# Altium footprint library VSSOP10-SPE-LM5060.PcbLib: 1 footprints
Each footprint in its own frame and in the unit in brackets; x right, y up, seen from the top. Pads: shape width x height; smd on the part's side, far side on the other; paste and mask are expansions set on the pad; w line width, h text height; cw(c..) or ccw(c..) is an arc to the next point about the centre after c.
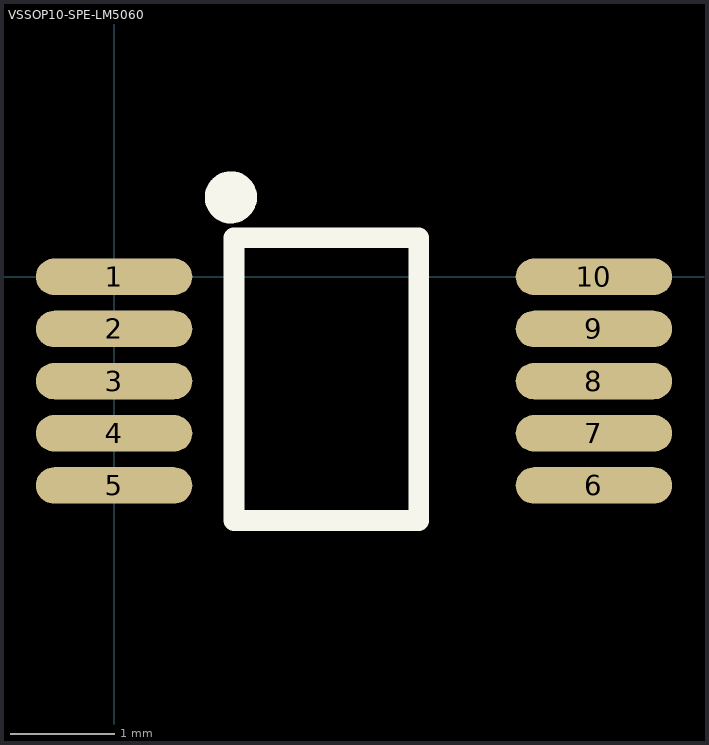
[diagram p0: the footprint, top view; thin cyan lines are the x and y axes]

## VSSOP10-SPE-LM5060 [mm]
height 1.2
pads (10):
  oval 1.5x0.35 smd mask+0.05: 1(0,0) 2(0,-0.5) 3(0,-1) 4(0,-1.5) 5(0,-2) 6(4.6,-2) 7(4.6,-1.5) 8(4.6,-1) 9(4.6,-0.5) 10(4.6,0)
Top Overlay:
  circle w0.25: c1.12,0.762 r0.125
  lines w0.2: 1.15,-2.337 1.15,0.375 2.921,0.375 2.921,-2.337 1.15,-2.337
3D body: height 1.1, standoff 0, extent -0.265,-2.489 4.735,0.511